# Altium footprint library GRM21BR71A106KA73L.PcbLib: 3 footprints
Each footprint in its own frame and in the unit in brackets; x right, y up, seen from the top. Pads: shape width x height; smd on the part's side, far side on the other; paste and mask are expansions set on the pad; w line width, h text height; cw(c..) or ccw(c..) is an arc to the next point about the centre after c.
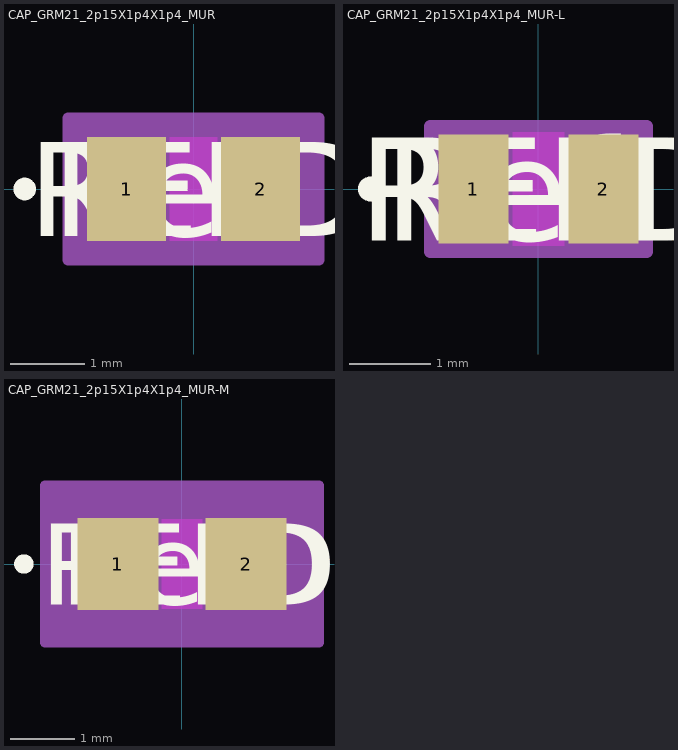
[diagram p0: the footprints below, top view; thin cyan lines are the x and y axes]

## CAP_GRM21_2p15X1p4X1p4_MUR [mil]
pads (2):
  rect 42x55 smd paste+0 mask+0: 1(-35.5,0) 2(35.5,0)
Top Layer keep-out:
  region: -12.5,-25.5 -12.5,25.5 12.5,25.5 12.5,-25.5
Top Overlay:
  circle w6: c-89.5,0 r3
  text "RefDes" at -75,-25 h50
  text "REFDES" at -87.5,-25 h50
Keep-Out Layer:
  region: -12.5,-27.5 -12.5,27.5 12.5,27.5 12.5,-27.5
Mechanical 13:
  circle w0: c-30.5,0 r3
  lines w1: -42.5,-27.5 -42.5,27.5 ; -42.5,-27.5 -14.5,-27.5 -14.5,27.5 -42.5,27.5 ; -42.5,-27.5 42.5,-27.5 ; -42.5,-27.5 -42.5,27.5 ; -42.5,27.5 42.5,27.5 ; 42.5,-27.5 14.5,-27.5 14.5,27.5 42.5,27.5 ; 42.5,-27.5 42.5,27.5 ; 42.5,-27.5 42.5,27.5
  text "RefDes2" at -87.5,-25 h50
Mechanical 15:
  region: 66.5,-37.5 -66.5,-37.5 -66.5,37.5 66.5,37.5
  lines w6: -66.5,-37.5 -66.5,37.5 66.5,37.5 66.5,-37.5 -66.5,-37.5
3D body "CAP_GRM21_2p15X1p4X1p4_MUR.step": height 55, standoff 0, extent -42.52,-27.48 42.52,27.48

## CAP_GRM21_2p15X1p4X1p4_MUR-L [mil]
pads (2):
  rect 34x53 smd paste+0 mask+0: 1(-31.5,0) 2(31.5,0)
Top Layer keep-out:
  region: -12.5,-25.5 -12.5,25.5 12.5,25.5 12.5,-25.5
Top Overlay:
  circle w6: c-81.5,0 r3
  text "RefDes" at -75,-25 h50
  text "REFDES" at -87.5,-25 h50
Keep-Out Layer:
  region: -12.5,-27.5 -12.5,27.5 12.5,27.5 12.5,-27.5
Mechanical 13:
  circle w0: c-26.5,0 r3
  lines w1: -42.5,-27.5 -42.5,27.5 ; -42.5,-27.5 -14.5,-27.5 -14.5,27.5 -42.5,27.5 ; -42.5,-27.5 42.5,-27.5 ; -42.5,-27.5 -42.5,27.5 ; -42.5,27.5 42.5,27.5 ; 42.5,-27.5 14.5,-27.5 14.5,27.5 42.5,27.5 ; 42.5,-27.5 42.5,27.5 ; 42.5,-27.5 42.5,27.5
  text "RefDes2" at -87.5,-25 h50
Mechanical 15:
  region: 52.5,-30.5 -52.5,-30.5 -52.5,30.5 52.5,30.5
  lines w6: -52.5,-30.5 -52.5,30.5 52.5,30.5 52.5,-30.5 -52.5,-30.5
3D body "CAP_GRM21_2p15X1p4X1p4_MUR.step": height 55, standoff 0, extent -42.52,-27.48 42.52,27.48

## CAP_GRM21_2p15X1p4X1p4_MUR-M [mil]
pads (2):
  rect 50x57 smd paste+0 mask+0: 1(-39.5,0) 2(39.5,0)
Top Layer keep-out:
  region: -12.5,-25.5 -12.5,25.5 12.5,25.5 12.5,-25.5
Top Overlay:
  circle w6: c-97.5,0 r3
  text "RefDes" at -75,-25 h50
  text "REFDES" at -87.5,-25 h50
Keep-Out Layer:
  region: -12.5,-27.5 -12.5,27.5 12.5,27.5 12.5,-27.5
Mechanical 13:
  circle w0: c-34.5,0 r3
  lines w1: -42.5,-27.5 -42.5,27.5 ; -42.5,-27.5 -14.5,-27.5 -14.5,27.5 -42.5,27.5 ; -42.5,-27.5 42.5,-27.5 ; -42.5,-27.5 -42.5,27.5 ; -42.5,27.5 42.5,27.5 ; 42.5,-27.5 14.5,-27.5 14.5,27.5 42.5,27.5 ; 42.5,-27.5 42.5,27.5 ; 42.5,-27.5 42.5,27.5
  text "RefDes2" at -87.5,-25 h50
Mechanical 15:
  region: 84.5,-48.5 -84.5,-48.5 -84.5,48.5 84.5,48.5
  lines w6: -84.5,-48.5 -84.5,48.5 84.5,48.5 84.5,-48.5 -84.5,-48.5
3D body "CAP_GRM21_2p15X1p4X1p4_MUR.step": height 55, standoff 0, extent -42.52,-27.48 42.52,27.48